# EAGLE library part STM32F030F4P6 (library hot-wand)
Check availability <https://pricing.snapeda.com/parts/STM32F030F4P6/STMicroelectronics/view-part?ref=eda>
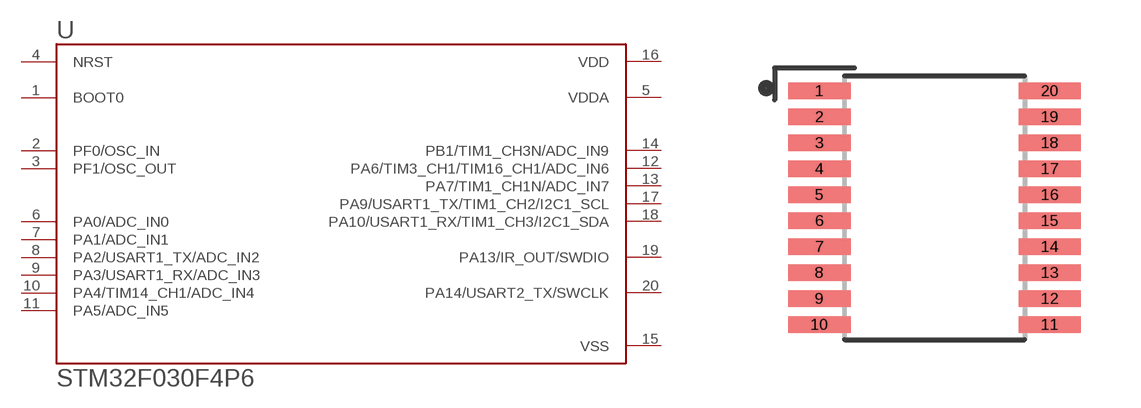
[diagram p7: symbol with the pads of SOP65P640X120-20N; footprint SOP65P640X120-20N]

Designator prefix U

## STM32F030F4P6  [SOP65P640X120-20N]
1  BOOT0  in
2  PF0/OSC_IN
3  PF1/OSC_OUT
4  NRST
5  VDDA  pwr
6  PA0/ADC_IN0
7  PA1/ADC_IN1
8  PA2/USART1_TX/ADC_IN2
9  PA3/USART1_RX/ADC_IN3
10  PA4/TIM14_CH1/ADC_IN4
11  PA5/ADC_IN5
12  PA6/TIM3_CH1/TIM16_CH1/ADC_IN6
13  PA7/TIM1_CH1N/ADC_IN7
14  PB1/TIM1_CH3N/ADC_IN9
15  VSS  pwr
16  VDD  pwr
17  PA9/USART1_TX/TIM1_CH2/I2C1_SCL
18  PA10/USART1_RX/TIM1_CH3/I2C1_SDA
19  PA13/IR_OUT/SWDIO
20  PA14/USART2_TX/SWCLK

## Footprint SOP65P640X120-20N (pad centres in mm)
smd 1.56 x 0.41: 1 -2.88,2.925; 2 -2.88,2.275; 3 -2.88,1.625; 4 -2.88,0.975; 5 -2.88,0.325; 6 -2.88,-0.325; 7 -2.88,-0.975; 8 -2.88,-1.625; 9 -2.88,-2.275; 10 -2.88,-2.925; 11 2.88,-2.925; 12 2.88,-2.275; 13 2.88,-1.625; 14 2.88,-0.975; 15 2.88,-0.325; 16 2.88,0.325; 17 2.88,0.975; 18 2.88,1.625; 19 2.88,2.275; 20 2.88,2.925